# Altium footprint library EARPHONE.PCBLIB: 1 footprints
Each footprint in its own frame and in the unit in brackets; x right, y up, seen from the top. Pads: shape width x height; smd on the part's side, far side on the other; paste and mask are expansions set on the pad; w line width, h text height; cw(c..) or ccw(c..) is an arc to the next point about the centre after c.
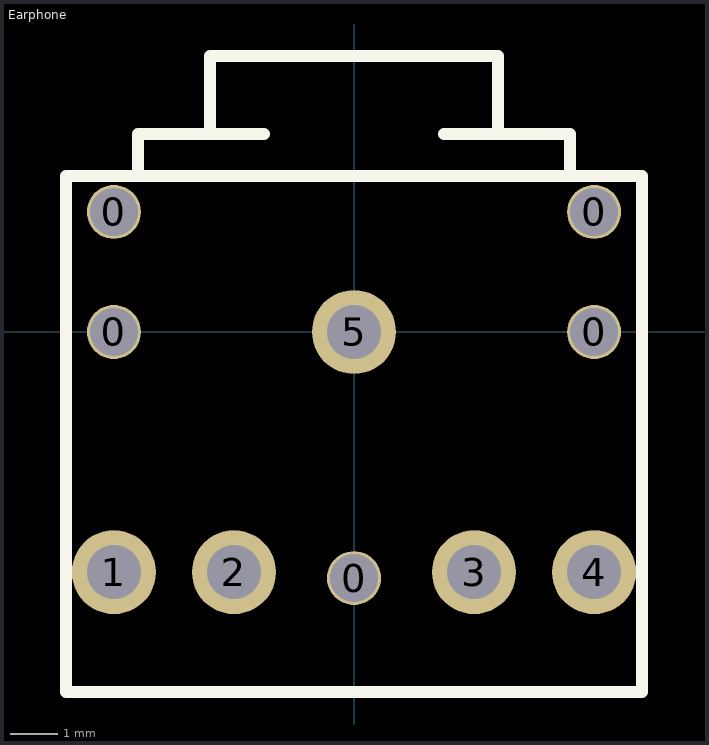
[diagram p0: the footprint, top view; thin cyan lines are the x and y axes]

## Earphone [mil] "Earphone"
pads (10):
  round 45 hole 40: 0(-200,0) 0(-200,100) 0(0,-205) 0(200,0) 0(200,100)
  round 70 hole 45: 1(-200,-200) 2(-100,-200) 3(100,-200) 4(200,-200) 5(0,0)
Top Overlay:
  lines w10: -75,165 -120,165 ; 75,165 120,165 ; -180,130 180,130 ; -180,130 -240,130 -240,-300 240,-300 240,130 180,130 ; -180,130 -180,165 -120,165 ; -120,165 -120,230 120,230 120,165 ; 120,165 180,165 180,130